# EAGLE library part TLI4970-D050T4 (library common)
50A Current Sensor
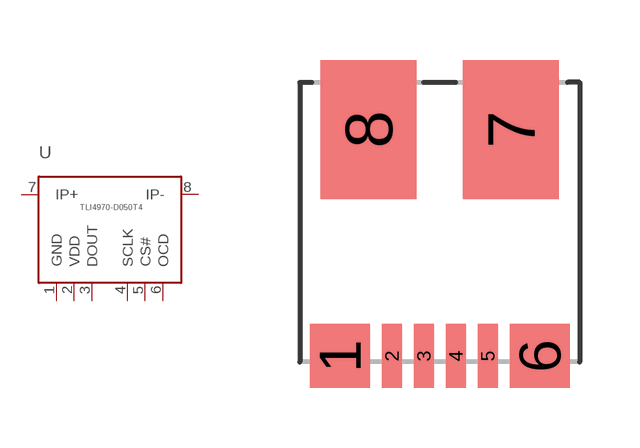
[diagram p43: symbol with the pads of TISON-8-1; footprint TISON-8-1]

Designator prefix U

## TLI4970-D050T4  [TISON-8-1]
1  GND
2  VDD
3  DOUT
4  SCLK
5  CS#
6  OCD
7  IP+
8  IP-

## Footprint TISON-8-1 (pad centres in mm)
smd 1.5 x 1.6: 1 -2.5,-3.35; 6 2.5,-3.35
smd 0.5 x 1.6: 2 -1.2,-3.35; 3 -0.4,-3.35; 4 0.4,-3.35; 5 1.2,-3.35
smd 2.4 x 3.48: 7 1.78,2.32; 8 -1.78,2.32